# EAGLE library part USB_MICRO (library ds_con)
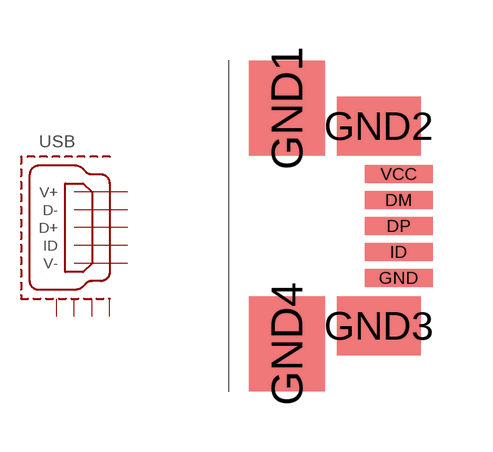
[diagram p16: symbol with the pads of MICRO; footprint MICRO]

Designator prefix USB

## USB_MICRO  [MICRO]
DM  D-  in
DP  D+  in
GND  V-  in
GND1  GND1
GND2  GND2
GND3  GND3
GND4  GND4
ID  ID  in
VCC  V+  in

## Footprint MICRO (pad centres in mm)
smd 1.7 x 0.45: DM 1.53,0.65; DP 1.53,0; GND 1.53,-1.3; ID 1.53,-0.65; VCC 1.53,1.3
smd 1.9 x 2.375: GND1 -1.27,2.95; GND4 -1.27,-2.95
smd 2.1 x 1.475: GND2 1.03,2.5; GND3 1.03,-2.5